# EAGLE library part CS5361 (library cirrus-2)
AUDIO A/D CONVERTOR Stereo 114 dB, 192 kHz, Multi-Bit Audio A/D Converter
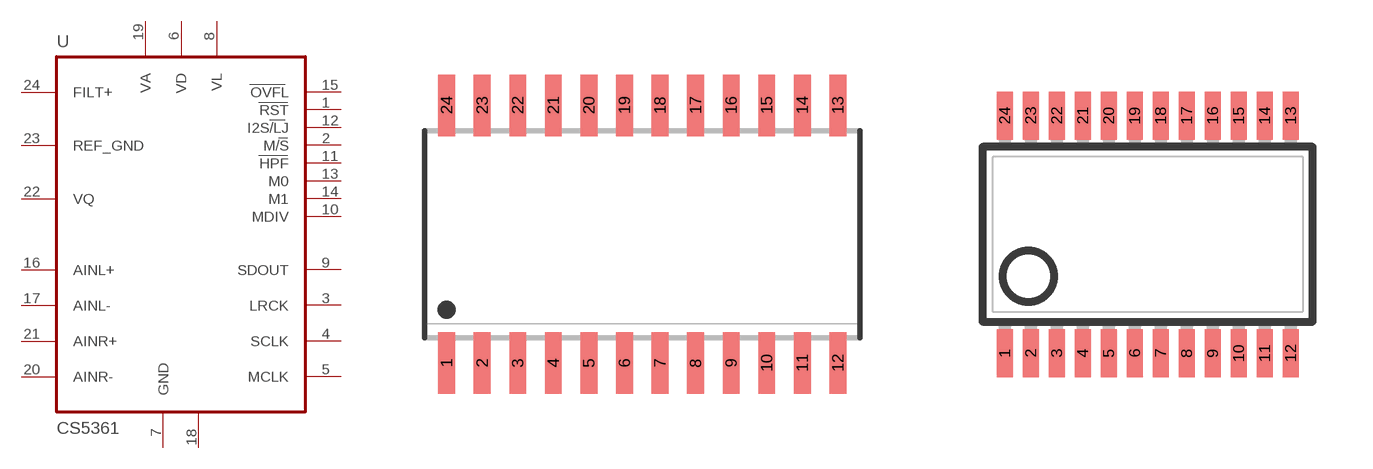
[diagram p0: symbol with the pads of SO24W; footprints SO24W, TSSOP24L]

Designator prefix U

## CS5361-KSZ  [SO24W]
1  RST  in
2  M/S  in
3  LRCK
4  SCLK
5  MCLK  in
6  VD  pwr
7  GND  pwr
8  VL  pwr
9  SDOUT  out
10  MDIV  in
11  HPF  in
12  I2S/LJ  in
13  M0  in
14  M1  in
15  OVFL  out
16  AINL+  pas
17  AINL-  pas
18  GND  pwr
19  VA  pwr
20  AINR-  pas
21  AINR+  pas
22  VQ  pas
23  REF_GND  pas
24  FILT+  pas

## CS5361-KZZ  [TSSOP24L]
Pads as for SO24W

## Footprint SO24W (pad centres in mm)
SMALL OUTLINE INTEGRATED CIRCUIT wide body 7.5 mm/JEDEC MO-119AA
smd 0.6 x 2.2: 1 -6.985,-4.6; 2 -5.715,-4.6; 3 -4.445,-4.6; 4 -3.175,-4.6; 5 -1.905,-4.6; 6 -0.635,-4.6; 7 0.635,-4.6; 8 1.905,-4.6; 9 3.175,-4.6; 10 4.445,-4.6; 11 5.715,-4.6; 12 6.985,-4.6; 13 6.985,4.6; 14 5.715,4.6; 15 4.445,4.6; 16 3.175,4.6; 17 1.905,4.6; 18 0.635,4.6; 19 -0.635,4.6; 20 -1.905,4.6; 21 -3.175,4.6; 22 -4.445,4.6; 23 -5.715,4.6; 24 -6.985,4.6

## Footprint TSSOP24L (pad centres in mm)
Small Shrink Outline Package JEDEC MO-153
smd 0.4 x 1.2: 1 -3.575,-2.97; 2 -2.925,-2.97; 3 -2.275,-2.97; 4 -1.625,-2.97; 5 -0.975,-2.97; 6 -0.325,-2.97; 7 0.325,-2.97; 8 0.975,-2.97; 9 1.625,-2.97; 10 2.275,-2.97; 11 2.925,-2.97; 12 3.575,-2.97; 13 3.575,2.97; 14 2.925,2.97; 15 2.275,2.97; 16 1.625,2.97; 17 0.975,2.97; 18 0.325,2.97; 19 -0.325,2.97; 20 -0.975,2.97; 21 -1.625,2.97; 22 -2.275,2.97; 23 -2.925,2.97; 24 -3.575,2.97